# Altium schematic symbol library U_AP7383_SOT23-5_EN.SchLib: 1 symbol
Pins are listed as number, name and electrical type; pins without a type are passive.

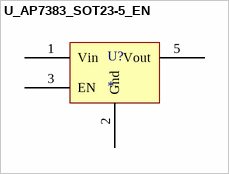
[diagram p0: symbol U_AP7383_SOT23-5_EN]

## U_AP7383_SOT23-5_EN
designator U?
pins: 1 Vin, 2 Gnd, 3 EN, 5 Vout